# EAGLE library part DIP-BLACK-MALE-HEADER-VERT(2X8P-2.54) (library Seeed-OPL-Connector)
320020045
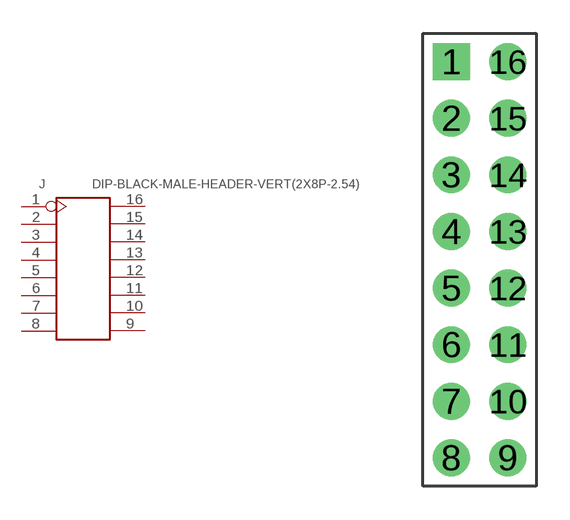
[diagram p119: symbol with the pads of H2X8-2.54; footprint H2X8-2.54]

Designator prefix J

## DIP-BLACK-MALE-HEADER-VERT(2X8P-2.54) (MPN: P125-1216A0AS116A1; VALUE: 2x8p-2.54)  [H2X8-2.54]
1  1
2  2
3  3
4  4
5  5
6  6
7  7
8  8
9  9
10  10
11  11
12  12
13  13
14  14
15  15
16  16

## Footprint H2X8-2.54 (pad centres in mm)
drill 0.889 pad 1.651 square: 1 -1.27,8.89
drill 0.889 pad 1.651: 2 -1.27,6.35; 3 -1.27,3.81; 4 -1.27,1.27; 5 -1.27,-1.27; 6 -1.27,-3.81; 7 -1.27,-6.35; 8 -1.27,-8.89; 9 1.27,-8.89; 10 1.27,-6.35; 11 1.27,-3.81; 12 1.27,-1.27; 13 1.27,1.27; 14 1.27,3.81; 15 1.27,6.35; 16 1.27,8.89